# Altium schematic symbol library Schlib1.SchLib: 6 symbols
Pins are listed as number, name and electrical type; pins without a type are passive.

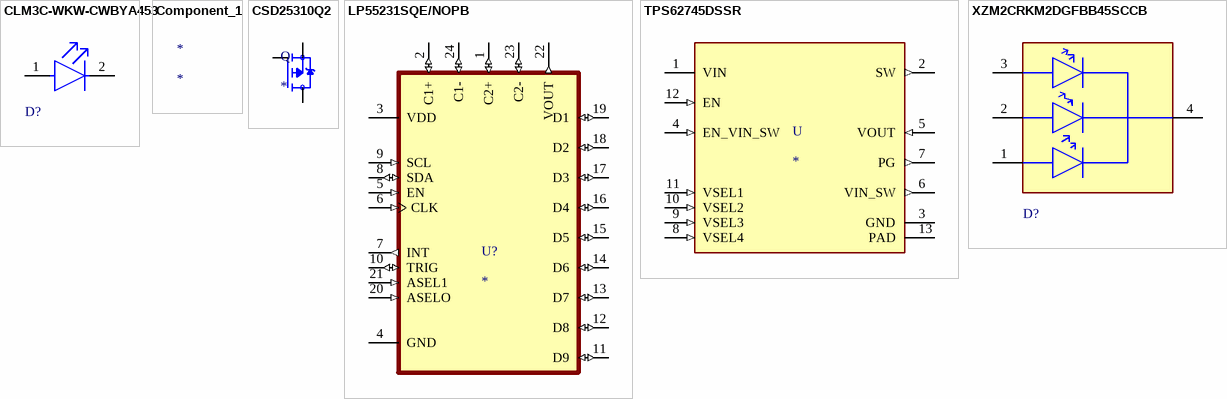
[diagram p0: symbols CLM3C-WKW-CWBYA453 to XZM2CRKM2DGFBB45SCCB]

## CLM3C-WKW-CWBYA453
designator D?  (value not drawn)
footprint Cree_CLM3C-WKW_MFG
pins: 1 A, 2 C

## Component_1
designator *

## CSD25310Q2
designator Q
P-Channel 20V 20A _Ta_ 2.9W _Ta_ Surface Mount 6-WSON _2x2_; MF: Texas Instruments; MP: CSD25310Q2; SnapEDA_Link: https://www.snapeda.com/parts/CSD25310Q2/Texas%20Instruments/view-part/479796/?ref=snap; Availability: Unavailable; Price: None; Package: WDFN-6 Texas Instruments; Value: *
footprint TRANS_CSD25310Q2
pins: 1 S, 2 S, 3 G, 4 D, 5 S, 6 S, 7 S, 8 D

## LP55231SQE/NOPB
designator U?
9 channel RGB / White LED driver with internal program memory and integrated charge Pump - WQFN 24-WQFN -30 to 85; MP: LP55231SQE/NOPB; MF: Texas Instruments; Availability: Warning; Purchase-URL: https://pricing.snapeda.com/search/part/LP55231SQE/NOPB/?ref=eda; SnapEDA_Link: https://www.snapeda.com/parts/LP55231SQE/NOPB/Texas%20Instruments/view-part/474412/?ref=snap; Price: None; Package: WQFN-24 Texas Instruments; Value: *
footprint QFN50P400X400X80-25N
pins: 1 C2+ (io), 2 C1+ (io), 3 VDD (power), 4 GND (power), 5 EN (in), 6 CLK (in), 7 INT (out), 8 SDA (io), 9 SCL (in), 10 TRIG (io), 11 D9 (io), 12 D8 (io), 13 D7 (io), 14 D6 (io), 15 D5 (io), 16 D4 (io), 17 D3 (io), 18 D2 (io), 19 D1 (io), 20 ASELO (in), 21 ASEL1 (in), 22 VOUT (out), 23 C2- (io), 24 C1- (io)

## TPS62745DSSR
designator U
3.3V-10V input, 300mA Ultra Low Iq step-down converter with VSEL and input voltage switch 12-WSON -40 to 125; MP: TPS62745DSSR; MF: Texas Instruments; SnapEDA_Link: https://www.snapeda.com/parts/TPS62745DSSR/Texas%20Instruments/view-part/229862/?ref=snap; Price: None; Availability: Unavailable; Value: *; Texas_Instruments-Purchase-URL: https://snapeda.com/shop?store=Texas+Instruments&id=229862; Package: WSON-12 Texas Instruments
footprint DSS0012A
pins: 1 VIN (power), 2 SW (out), 3 GND (power), 4 EN_VIN_SW (in), 5 VOUT (in), 6 VIN_SW (out), 7 PG (out), 8 VSEL4 (in), 9 VSEL3 (in), 10 VSEL2 (in), 11 VSEL1 (in), 12 EN (in), 13 PAD

## XZM2CRKM2DGFBB45SCCB
designator D?  (value not drawn)
footprint SunLED_XZM2CRKM2DGFBB45SCCB_0
pins: 1 RED A, 2 GREEN A, 3 BLUE A, 4 COMMON CATHODE